# Altium integrated library Analog Devices Switches and Multiplexers Analog Switches.IntLib: 575 symbols (part 10 of 23)
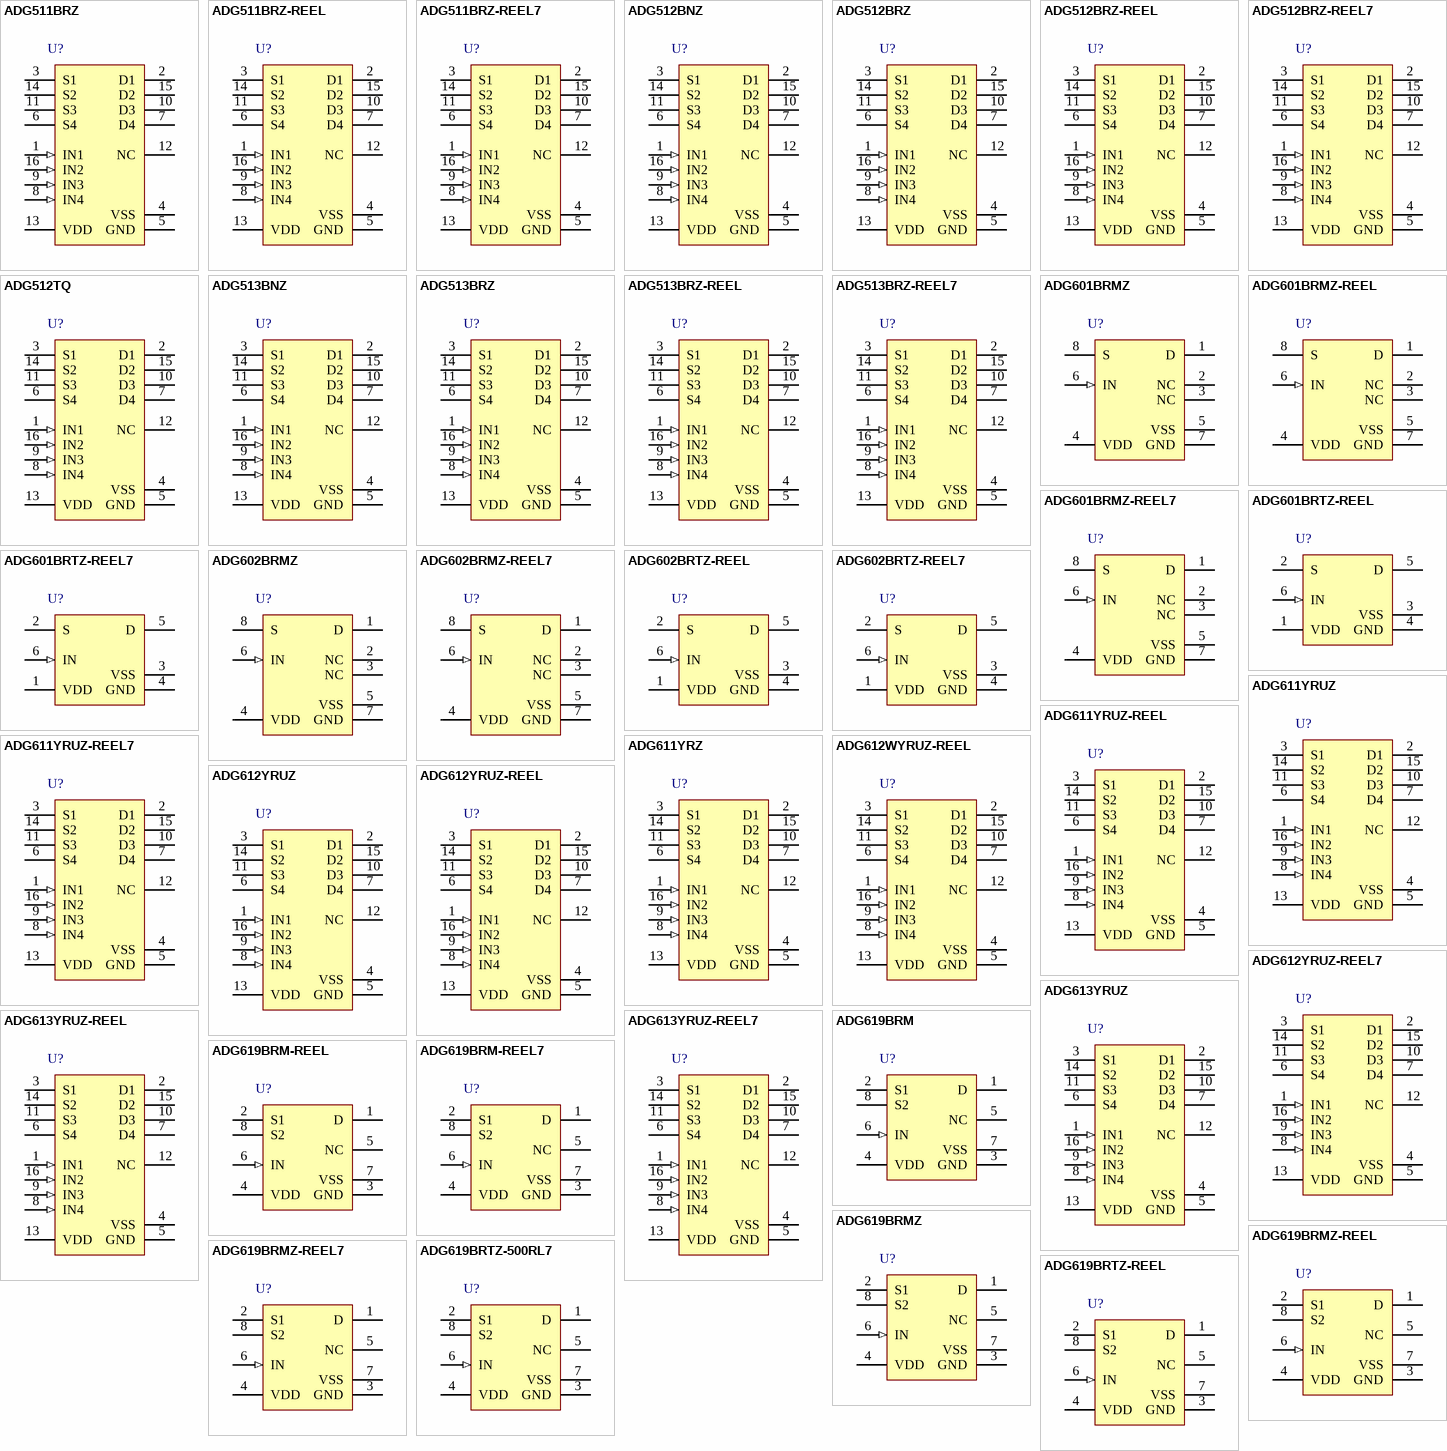
[diagram p24: symbols ADG511BRZ to ADG619BRTZ-REEL]

## ADG602BRTZ-REEL
designator U?
2 Ohm, CMOS, +/-5 V / +5 V, SPST Switch, -40 to 85 degC, 6-pin SOT23 (RJ-6), Reel; Manufacturer: Analog Devices; PartNumber: ADG602BRTZ-REEL; Id, Is (ON): 10pA, 10pA; Max Pos Supply: 5.5V; Min Pos Supply: 2.7V; Power Dissipation: 10uW; Ron (ohms): 2; DatasheetVersion: Rev. C; PackageVersion: 121608-A, 12/2008; PackageReference: RJ-6; PackageDescription: 6-Pin Small Outline Transistor Package, Body 2.9 x 1.6 mm, Pitch 0.95 mm; Supplier 1: Digi-Key; Supplier Part Number 1: ADG602BRTZ-REEL-ND; Supplier 2: Mouser; Supplier Part Number 2: 584-ADG602BRTZ-R; Configuration: SPST; Is OFF: 10pA, 10pA; Packing: Reel; Mounting Technology: Surface Mount; Code_JEDEC: MO-178-AB; ComponentLink1Description: Manufacturer URL; ComponentLink1URL: http://www.analog.com/en/index.html; ComponentLink2Description: Datasheet; ComponentLink2URL: http://www.analog.com/static/imported-files/data_sheets/ADG601_602.pdf; ComponentLink3Description: Package Specification; ComponentLink3URL: http://www.analog.com/static/imported-files/packages/PKG_PDF/SOT-23(RJ)/RJ_6.pdf
footprint ADI-RJ-6_N (SOT23, 6-Leads, Body 2.9x1.6mm, Pitch 0.95mm, IPC Medium Density)
footprint ADI-RJ-6_L (SOT23, 6-Leads, Body 2.9x1.6mm, Pitch 0.95mm, IPC High Density)
footprint ADI-RJ-6_M (SOT23, 6-Leads, Body 2.9x1.6mm, Pitch 0.95mm, IPC Low Density)
pins: 1 VDD (power) "Most Positive Power Supply Potential.", 2 S "Source Terminal. Can be an input or output.", 3 VSS (power) "Most Negative Power Supply Potential.", 4 GND (power) "Ground (0 V) Reference.", 5 D "Drain Terminal. Can be an input or output.", 6 IN (in) "Logic Control Input."

## ADG602BRTZ-REEL7
designator U?
2 Ohm, CMOS, +/-5 V / +5 V, SPST Switch, -40 to 85 degC, 6-pin SOT23 (RJ-6), Reel; Manufacturer: Analog Devices; PartNumber: ADG602BRTZ-REEL7; Id, Is (ON): 10pA, 10pA; Max Pos Supply: 5.5V; Min Pos Supply: 2.7V; Power Dissipation: 10uW; Ron (ohms): 2; DatasheetVersion: Rev. C; PackageVersion: 121608-A, 12/2008; PackageReference: RJ-6; PackageDescription: 6-Pin Small Outline Transistor Package, Body 2.9 x 1.6 mm, Pitch 0.95 mm; Supplier 1: Digi-Key; Supplier Part Number 1: ADG602BRTZ-REEL7TR-ND; Supplier 2: Digi-Key; Supplier Part Number 2: ADG602BRTZ-REEL7CT-ND; Supplier 3: Digi-Key; Supplier Part Number 3: ADG602BRTZ-REEL7DKR-ND; Supplier 4: Farnell; Supplier Part Number 4: 2312945; Supplier 5: Newark; Supplier Part Number 5: 67W3126; Supplier 6: Newark; Supplier Part Number 6: 59K1412; Supplier 7: Mouser; Supplier Part Number 7: 584-ADG602BRTZ-R7; Configuration: SPST; Is OFF: 10pA, 10pA; Packing: Reel; Mounting Technology: Surface Mount; Code_JEDEC: MO-178-AB; ComponentLink1Description: Manufacturer URL; ComponentLink1URL: http://www.analog.com/en/index.html; ComponentLink2Description: Datasheet; ComponentLink2URL: http://www.analog.com/static/imported-files/data_sheets/ADG601_602.pdf; ComponentLink3Description: Package Specification; ComponentLink3URL: http://www.analog.com/static/imported-files/packages/PKG_PDF/SOT-23(RJ)/RJ_6.pdf
footprint ADI-RJ-6_N (SOT23, 6-Leads, Body 2.9x1.6mm, Pitch 0.95mm, IPC Medium Density)
footprint ADI-RJ-6_L (SOT23, 6-Leads, Body 2.9x1.6mm, Pitch 0.95mm, IPC High Density)
footprint ADI-RJ-6_M (SOT23, 6-Leads, Body 2.9x1.6mm, Pitch 0.95mm, IPC Low Density)
pins: 1 VDD (power) "Most Positive Power Supply Potential.", 2 S "Source Terminal. Can be an input or output.", 3 VSS (power) "Most Negative Power Supply Potential.", 4 GND (power) "Ground (0 V) Reference.", 5 D "Drain Terminal. Can be an input or output.", 6 IN (in) "Logic Control Input."

## ADG611YRUZ
designator U?
1 pC Charge Injection, 100 pA Leakage, CMOS, +/-5 V / 5 V / 3 V, Quad SPST Switches, 85 Ohm Ron, 16-pin SOP (RU-16), Tube; Manufacturer: Analog Devices; PartNumber: ADG611YRUZ; # Sw Functions: 4; Max Neg Supply: -5.5V; Max Pos Supply: +5.5V; Ron (ohms): 85, 210; t ON: 45ns, 70ns; DatasheetVersion: Rev. A; PackageVersion: Nov-02; PackageReference: RU-16; PackageDescription: 16-Pin Thin Shrink Small Outline Package, Body 5 x 4.4 mm, Pitch 0.65 mm; Supplier 1: Digi-Key; Supplier Part Number 1: ADG611YRUZ-ND; Supplier 2: Farnell; Supplier Part Number 2: 1438884; Supplier 3: Newark; Supplier Part Number 3: 59K1428; Supplier 4: Mouser; Supplier Part Number 4: 584-ADG611YRUZ; Configuration: SPST; Packing: Tube; Mounting Technology: Surface Mount; Code_JEDEC: MO-153AB; ComponentLink1Description: Manufacturer URL; ComponentLink1URL: http://www.analog.com/en/index.html; ComponentLink2Description: Datasheet; ComponentLink2URL: http://www.analog.com/static/imported-files/data_sheets/ADG611_612_613.pdf; ComponentLink3Description: Package Specification; ComponentLink3URL: http:/www.analog.com/static/imported-files/packages/36244347913743854010197452789RU16.pdf
footprint ADI-RU-16_N (SOP, 16-Leads, Body 5x4.4mm, Pitch 0.65mm, IPC Medium Density)
footprint ADI-RU-16_L (SOP, 16-Leads, Body 5x4.4mm, Pitch 0.65mm, IPC High Density)
footprint ADI-RU-16_M (SOP, 16-Leads, Body 5x4.4mm, Pitch 0.65mm, IPC Low Density)
pins: 1 IN1 (in) "Switch 1 Digital Control Input.", 2 D1 "Drain Terminal of Switch 1. Can be an input or output.", 3 S1 "Source Terminal of Switch 1. Can be an input or output.", 4 VSS (power) "Most Negative Power Supply Terminal. Tie this pin to GND when using the device with single-supply voltages.", 5 GND (power) "Ground (0 V) Reference.", 6 S4 "Source Terminal of Switch 4. Can be an input or output.", 7 D4 "Drain Terminal of Switch 4. Can be an input or output.", 8 IN4 (in) "Switch 4 Digital Control Input.", 9 IN3 (in) "Switch 3 Digital Control Input.", 10 D3 "Drain Terminal of Switch 3. Can be an input or output.", 11 S3 "Source Terminal of Switch 3. Can be an input or output.", 12 NC "Not Internally Connected.", 13 VDD (power) "Most Positive Power Supply Terminal.", 14 S2 "Source Terminal of Switch 2. Can be an input or output.", 15 D2 "Drain Terminal of Switch 2. Can be an input or output.", 16 IN2 (in) "Switch 2 Digital Control Input."

## ADG611YRUZ-REEL
designator U?
1 pC Charge Injection, 100 pA Leakage, CMOS, +/-5 V / 5 V / 3 V, Quad SPST Switches, 85 Ohm Ron, 16-pin SOP (RU-16), Reel; Manufacturer: Analog Devices; PartNumber: ADG611YRUZ-REEL; # Sw Functions: 4; Max Neg Supply: -5.5V; Max Pos Supply: +5.5V; Ron (ohms): 85, 210; t ON: 45ns, 70ns; DatasheetVersion: Rev. A; PackageVersion: Nov-02; PackageReference: RU-16; PackageDescription: 16-Pin Thin Shrink Small Outline Package, Body 5 x 4.4 mm, Pitch 0.65 mm; Supplier 1: Digi-Key; Supplier Part Number 1: ADG611YRUZ-REEL-ND; Configuration: SPST; Packing: Reel; Mounting Technology: Surface Mount; Code_JEDEC: MO-153AB; ComponentLink1Description: Manufacturer URL; ComponentLink1URL: http://www.analog.com/en/index.html; ComponentLink2Description: Datasheet; ComponentLink2URL: http://www.analog.com/static/imported-files/data_sheets/ADG611_612_613.pdf; ComponentLink3Description: Package Specification; ComponentLink3URL: http:/www.analog.com/static/imported-files/packages/36244347913743854010197452789RU16.pdf
footprint ADI-RU-16_N (SOP, 16-Leads, Body 5x4.4mm, Pitch 0.65mm, IPC Medium Density)
footprint ADI-RU-16_L (SOP, 16-Leads, Body 5x4.4mm, Pitch 0.65mm, IPC High Density)
footprint ADI-RU-16_M (SOP, 16-Leads, Body 5x4.4mm, Pitch 0.65mm, IPC Low Density)
pins: 1 IN1 (in) "Switch 1 Digital Control Input.", 2 D1 "Drain Terminal of Switch 1. Can be an input or output.", 3 S1 "Source Terminal of Switch 1. Can be an input or output.", 4 VSS (power) "Most Negative Power Supply Terminal. Tie this pin to GND when using the device with single-supply voltages.", 5 GND (power) "Ground (0 V) Reference.", 6 S4 "Source Terminal of Switch 4. Can be an input or output.", 7 D4 "Drain Terminal of Switch 4. Can be an input or output.", 8 IN4 (in) "Switch 4 Digital Control Input.", 9 IN3 (in) "Switch 3 Digital Control Input.", 10 D3 "Drain Terminal of Switch 3. Can be an input or output.", 11 S3 "Source Terminal of Switch 3. Can be an input or output.", 12 NC "Not Internally Connected.", 13 VDD (power) "Most Positive Power Supply Terminal.", 14 S2 "Source Terminal of Switch 2. Can be an input or output.", 15 D2 "Drain Terminal of Switch 2. Can be an input or output.", 16 IN2 (in) "Switch 2 Digital Control Input."

## ADG611YRUZ-REEL7
designator U?
1 pC Charge Injection, 100 pA Leakage, CMOS, +/-5 V / 5 V / 3 V, Quad SPST Switches, 85 Ohm Ron, 16-pin SOP (RU-16), Reel; Manufacturer: Analog Devices; PartNumber: ADG611YRUZ-REEL7; # Sw Functions: 4; Max Neg Supply: -5.5V; Max Pos Supply: +5.5V; Ron (ohms): 85, 210; t ON: 45ns, 70ns; DatasheetVersion: Rev. A; PackageVersion: Nov-02; PackageReference: RU-16; PackageDescription: 16-Pin Thin Shrink Small Outline Package, Body 5 x 4.4 mm, Pitch 0.65 mm; Supplier 1: Digi-Key; Supplier Part Number 1: ADG611YRUZ-REEL7TR-ND; Supplier 2: Digi-Key; Supplier Part Number 2: ADG611YRUZ-REEL7CT-ND; Supplier 3: Digi-Key; Supplier Part Number 3: ADG611YRUZ-REEL7DKR-ND; Supplier 4: Newark; Supplier Part Number 4: 59K1430; Supplier 5: Mouser; Supplier Part Number 5: 584-ADG611YRUZ-R7; Configuration: SPST; Packing: Reel; Mounting Technology: Surface Mount; Code_JEDEC: MO-153AB; ComponentLink1Description: Manufacturer URL; ComponentLink1URL: http://www.analog.com/en/index.html; ComponentLink2Description: Datasheet; ComponentLink2URL: http://www.analog.com/static/imported-files/data_sheets/ADG611_612_613.pdf; ComponentLink3Description: Package Specification; ComponentLink3URL: http:/www.analog.com/static/imported-files/packages/36244347913743854010197452789RU16.pdf
footprint ADI-RU-16_N (SOP, 16-Leads, Body 5x4.4mm, Pitch 0.65mm, IPC Medium Density)
footprint ADI-RU-16_L (SOP, 16-Leads, Body 5x4.4mm, Pitch 0.65mm, IPC High Density)
footprint ADI-RU-16_M (SOP, 16-Leads, Body 5x4.4mm, Pitch 0.65mm, IPC Low Density)
pins: 1 IN1 (in) "Switch 1 Digital Control Input.", 2 D1 "Drain Terminal of Switch 1. Can be an input or output.", 3 S1 "Source Terminal of Switch 1. Can be an input or output.", 4 VSS (power) "Most Negative Power Supply Terminal. Tie this pin to GND when using the device with single-supply voltages.", 5 GND (power) "Ground (0 V) Reference.", 6 S4 "Source Terminal of Switch 4. Can be an input or output.", 7 D4 "Drain Terminal of Switch 4. Can be an input or output.", 8 IN4 (in) "Switch 4 Digital Control Input.", 9 IN3 (in) "Switch 3 Digital Control Input.", 10 D3 "Drain Terminal of Switch 3. Can be an input or output.", 11 S3 "Source Terminal of Switch 3. Can be an input or output.", 12 NC "Not Internally Connected.", 13 VDD (power) "Most Positive Power Supply Terminal.", 14 S2 "Source Terminal of Switch 2. Can be an input or output.", 15 D2 "Drain Terminal of Switch 2. Can be an input or output.", 16 IN2 (in) "Switch 2 Digital Control Input."

## ADG611YRZ
designator U?
1 pC Charge Injection, 100 pA Leakage, CMOS, +/-5 V / 5 V / 3 V, Quad SPST Switches, 85 Ohm Ron, 16-pin SOIC (R-16), Tube; Manufacturer: Analog Devices; PartNumber: ADG611YRZ; # Sw Functions: 4; Max Neg Supply: -5.5V; Max Pos Supply: +5.5V; Ron (ohms): 85, 210; t ON: 45ns, 70ns; DatasheetVersion: Rev. A; PackageVersion: 060606-A, 06/2006; PackageReference: R-16; PackageDescription: 16-Pin Standard Small Outline Package, Body 9.9 x 3.9 mm, Pitch 1.27 mm; Supplier 1: Mouser; Supplier Part Number 1: N/A; Configuration: SPST; Packing: Tube; Mounting Technology: Surface Mount; Code_JEDEC: MS-012-AC; ComponentLink1Description: Manufacturer URL; ComponentLink1URL: http://www.analog.com/en/index.html; ComponentLink2Description: Datasheet; ComponentLink2URL: http://www.analog.com/static/imported-files/data_sheets/ADG611_612_613.pdf; ComponentLink3Description: Package Specification; ComponentLink3URL: http://www.analog.com/static/imported-files/packages/PKG_PDF/SOIC_Narrow%20(R)/R_16.pdf
footprint ADI-R-16_N (SOIC, 16-Leads, Body 9.9x3.9mm, Pitch 1.27mm, IPC Medium Density)
footprint ADI-R-16_L (SOIC, 16-Leads, Body 9.9x3.9mm, Pitch 1.27mm, IPC High Density)
footprint ADI-R-16_M (SOIC, 16-Leads, Body 9.9x3.9mm, Pitch 1.27mm, IPC Low Density)
pins: 1 IN1 (in) "Switch 1 Digital Control Input.", 2 D1 "Drain Terminal of Switch 1. Can be an input or output.", 3 S1 "Source Terminal of Switch 1. Can be an input or output.", 4 VSS (power) "Most Negative Power Supply Terminal. Tie this pin to GND when using the device with single-supply voltages.", 5 GND (power) "Ground (0 V) Reference.", 6 S4 "Source Terminal of Switch 4. Can be an input or output.", 7 D4 "Drain Terminal of Switch 4. Can be an input or output.", 8 IN4 (in) "Switch 4 Digital Control Input.", 9 IN3 (in) "Switch 3 Digital Control Input.", 10 D3 "Drain Terminal of Switch 3. Can be an input or output.", 11 S3 "Source Terminal of Switch 3. Can be an input or output.", 12 NC "Not Internally Connected.", 13 VDD (power) "Most Positive Power Supply Terminal.", 14 S2 "Source Terminal of Switch 2. Can be an input or output.", 15 D2 "Drain Terminal of Switch 2. Can be an input or output.", 16 IN2 (in) "Switch 2 Digital Control Input."

## ADG612WYRUZ-REEL
designator U?
1 pC Charge Injection, 100 pA Leakage, CMOS, +/-5 V / 5 V / 3 V, Quad SPST Switches, 85 Ohm Ron, 16-pin SOP (RU-16), Reel; Manufacturer: Analog Devices; PartNumber: ADG612WYRUZ-REEL; # Sw Functions: 4; Max Neg Supply: -5.5V; Max Pos Supply: +5.5V; Ron (ohms): 85, 210; t ON: 45ns, 70ns; DatasheetVersion: Rev. A; PackageVersion: Nov-02; PackageReference: RU-16; PackageDescription: 16-Pin Thin Shrink Small Outline Package, Body 5 x 4.4 mm, Pitch 0.65 mm; Supplier 1: Digi-Key; Supplier Part Number 1: ADG612WYRUZ-REELTR-ND; Supplier 2: Digi-Key; Supplier Part Number 2: ADG612WYRUZ-REELCT-ND; Supplier 3: Digi-Key; Supplier Part Number 3: ADG612WYRUZ-REELDKR-ND; Supplier 4: Mouser; Supplier Part Number 4: 584-ADG612WYRUZ-R; Configuration: SPST; Packing: Reel; Mounting Technology: Surface Mount; Code_JEDEC: MO-153AB; ComponentLink1Description: Manufacturer URL; ComponentLink1URL: http://www.analog.com/en/index.html; ComponentLink2Description: Datasheet; ComponentLink2URL: http://www.analog.com/static/imported-files/data_sheets/ADG611_612_613.pdf; ComponentLink3Description: Package Specification; ComponentLink3URL: http:/www.analog.com/static/imported-files/packages/36244347913743854010197452789RU16.pdf
footprint ADI-RU-16_N (SOP, 16-Leads, Body 5x4.4mm, Pitch 0.65mm, IPC Medium Density)
footprint ADI-RU-16_L (SOP, 16-Leads, Body 5x4.4mm, Pitch 0.65mm, IPC High Density)
footprint ADI-RU-16_M (SOP, 16-Leads, Body 5x4.4mm, Pitch 0.65mm, IPC Low Density)
pins: 1 IN1 (in) "Switch 1 Digital Control Input.", 2 D1 "Drain Terminal of Switch 1. Can be an input or output.", 3 S1 "Source Terminal of Switch 1. Can be an input or output.", 4 VSS (power) "Most Negative Power Supply Terminal. Tie this pin to GND when using the device with single-supply voltages.", 5 GND (power) "Ground (0 V) Reference.", 6 S4 "Source Terminal of Switch 4. Can be an input or output.", 7 D4 "Drain Terminal of Switch 4. Can be an input or output.", 8 IN4 (in) "Switch 4 Digital Control Input.", 9 IN3 (in) "Switch 3 Digital Control Input.", 10 D3 "Drain Terminal of Switch 3. Can be an input or output.", 11 S3 "Source Terminal of Switch 3. Can be an input or output.", 12 NC "Not Internally Connected.", 13 VDD (power) "Most Positive Power Supply Terminal.", 14 S2 "Source Terminal of Switch 2. Can be an input or output.", 15 D2 "Drain Terminal of Switch 2. Can be an input or output.", 16 IN2 (in) "Switch 2 Digital Control Input."

## ADG612YRUZ
designator U?
1 pC Charge Injection, 100 pA Leakage, CMOS, +/-5 V / 5 V / 3 V, Quad SPST Switches, 85 Ohm Ron, 16-pin SOP (RU-16), Tube; Manufacturer: Analog Devices; PartNumber: ADG612YRUZ; # Sw Functions: 4; Max Neg Supply: -5.5V; Max Pos Supply: +5.5V; Ron (ohms): 85, 210; t ON: 45ns, 70ns; DatasheetVersion: Rev. A; PackageVersion: Nov-02; PackageReference: RU-16; PackageDescription: 16-Pin Thin Shrink Small Outline Package, Body 5 x 4.4 mm, Pitch 0.65 mm; Supplier 1: Digi-Key; Supplier Part Number 1: ADG612YRUZ-ND; Supplier 2: Farnell; Supplier Part Number 2: 1438885; Supplier 3: Newark; Supplier Part Number 3: 59K1431; Supplier 4: Mouser; Supplier Part Number 4: 584-ADG612YRUZ; Configuration: SPST; Packing: Tube; Mounting Technology: Surface Mount; Code_JEDEC: MO-153AB; ComponentLink1Description: Manufacturer URL; ComponentLink1URL: http://www.analog.com/en/index.html; ComponentLink2Description: Datasheet; ComponentLink2URL: http://www.analog.com/static/imported-files/data_sheets/ADG611_612_613.pdf; ComponentLink3Description: Package Specification; ComponentLink3URL: http:/www.analog.com/static/imported-files/packages/36244347913743854010197452789RU16.pdf
footprint ADI-RU-16_N (SOP, 16-Leads, Body 5x4.4mm, Pitch 0.65mm, IPC Medium Density)
footprint ADI-RU-16_L (SOP, 16-Leads, Body 5x4.4mm, Pitch 0.65mm, IPC High Density)
footprint ADI-RU-16_M (SOP, 16-Leads, Body 5x4.4mm, Pitch 0.65mm, IPC Low Density)
pins: 1 IN1 (in) "Switch 1 Digital Control Input.", 2 D1 "Drain Terminal of Switch 1. Can be an input or output.", 3 S1 "Source Terminal of Switch 1. Can be an input or output.", 4 VSS (power) "Most Negative Power Supply Terminal. Tie this pin to GND when using the device with single-supply voltages.", 5 GND (power) "Ground (0 V) Reference.", 6 S4 "Source Terminal of Switch 4. Can be an input or output.", 7 D4 "Drain Terminal of Switch 4. Can be an input or output.", 8 IN4 (in) "Switch 4 Digital Control Input.", 9 IN3 (in) "Switch 3 Digital Control Input.", 10 D3 "Drain Terminal of Switch 3. Can be an input or output.", 11 S3 "Source Terminal of Switch 3. Can be an input or output.", 12 NC "Not Internally Connected.", 13 VDD (power) "Most Positive Power Supply Terminal.", 14 S2 "Source Terminal of Switch 2. Can be an input or output.", 15 D2 "Drain Terminal of Switch 2. Can be an input or output.", 16 IN2 (in) "Switch 2 Digital Control Input."

## ADG612YRUZ-REEL
designator U?
1 pC Charge Injection, 100 pA Leakage, CMOS, +/-5 V / 5 V / 3 V, Quad SPST Switches, 85 Ohm Ron, 16-pin SOP (RU-16), Reel; Manufacturer: Analog Devices; PartNumber: ADG612YRUZ-REEL; # Sw Functions: 4; Max Neg Supply: -5.5V; Max Pos Supply: +5.5V; Ron (ohms): 85, 210; t ON: 45ns, 70ns; DatasheetVersion: Rev. A; PackageVersion: Nov-02; PackageReference: RU-16; PackageDescription: 16-Pin Thin Shrink Small Outline Package, Body 5 x 4.4 mm, Pitch 0.65 mm; Supplier 1: Digi-Key; Supplier Part Number 1: ADG612YRUZ-REEL-ND; Supplier 2: Newark; Supplier Part Number 2: 59K1432; Supplier 3: Mouser; Supplier Part Number 3: 584-ADG612YRUZ-R; Configuration: SPST; Packing: Reel; Mounting Technology: Surface Mount; Code_JEDEC: MO-153AB; ComponentLink1Description: Manufacturer URL; ComponentLink1URL: http://www.analog.com/en/index.html; ComponentLink2Description: Datasheet; ComponentLink2URL: http://www.analog.com/static/imported-files/data_sheets/ADG611_612_613.pdf; ComponentLink3Description: Package Specification; ComponentLink3URL: http:/www.analog.com/static/imported-files/packages/36244347913743854010197452789RU16.pdf
footprint ADI-RU-16_N (SOP, 16-Leads, Body 5x4.4mm, Pitch 0.65mm, IPC Medium Density)
footprint ADI-RU-16_L (SOP, 16-Leads, Body 5x4.4mm, Pitch 0.65mm, IPC High Density)
footprint ADI-RU-16_M (SOP, 16-Leads, Body 5x4.4mm, Pitch 0.65mm, IPC Low Density)
pins: 1 IN1 (in) "Switch 1 Digital Control Input.", 2 D1 "Drain Terminal of Switch 1. Can be an input or output.", 3 S1 "Source Terminal of Switch 1. Can be an input or output.", 4 VSS (power) "Most Negative Power Supply Terminal. Tie this pin to GND when using the device with single-supply voltages.", 5 GND (power) "Ground (0 V) Reference.", 6 S4 "Source Terminal of Switch 4. Can be an input or output.", 7 D4 "Drain Terminal of Switch 4. Can be an input or output.", 8 IN4 (in) "Switch 4 Digital Control Input.", 9 IN3 (in) "Switch 3 Digital Control Input.", 10 D3 "Drain Terminal of Switch 3. Can be an input or output.", 11 S3 "Source Terminal of Switch 3. Can be an input or output.", 12 NC "Not Internally Connected.", 13 VDD (power) "Most Positive Power Supply Terminal.", 14 S2 "Source Terminal of Switch 2. Can be an input or output.", 15 D2 "Drain Terminal of Switch 2. Can be an input or output.", 16 IN2 (in) "Switch 2 Digital Control Input."

## ADG612YRUZ-REEL7
designator U?
1 pC Charge Injection, 100 pA Leakage, CMOS, +/-5 V / 5 V / 3 V, Quad SPST Switches, 85 Ohm Ron, 16-pin SOP (RU-16), Reel; Manufacturer: Analog Devices; PartNumber: ADG612YRUZ-REEL7; # Sw Functions: 4; Max Neg Supply: -5.5V; Max Pos Supply: +5.5V; Ron (ohms): 85, 210; t ON: 45ns, 70ns; DatasheetVersion: Rev. A; PackageVersion: Nov-02; PackageReference: RU-16; PackageDescription: 16-Pin Thin Shrink Small Outline Package, Body 5 x 4.4 mm, Pitch 0.65 mm; Supplier 1: Digi-Key; Supplier Part Number 1: ADG612YRUZ-REEL7-ND; Supplier 2: Mouser; Supplier Part Number 2: 584-ADG612YRUZ-R7; Configuration: SPST; Packing: Reel; Mounting Technology: Surface Mount; Code_JEDEC: MO-153AB; ComponentLink1Description: Manufacturer URL; ComponentLink1URL: http://www.analog.com/en/index.html; ComponentLink2Description: Datasheet; ComponentLink2URL: http://www.analog.com/static/imported-files/data_sheets/ADG611_612_613.pdf; ComponentLink3Description: Package Specification; ComponentLink3URL: http:/www.analog.com/static/imported-files/packages/36244347913743854010197452789RU16.pdf
footprint ADI-RU-16_N (SOP, 16-Leads, Body 5x4.4mm, Pitch 0.65mm, IPC Medium Density)
footprint ADI-RU-16_L (SOP, 16-Leads, Body 5x4.4mm, Pitch 0.65mm, IPC High Density)
footprint ADI-RU-16_M (SOP, 16-Leads, Body 5x4.4mm, Pitch 0.65mm, IPC Low Density)
pins: 1 IN1 (in) "Switch 1 Digital Control Input.", 2 D1 "Drain Terminal of Switch 1. Can be an input or output.", 3 S1 "Source Terminal of Switch 1. Can be an input or output.", 4 VSS (power) "Most Negative Power Supply Terminal. Tie this pin to GND when using the device with single-supply voltages.", 5 GND (power) "Ground (0 V) Reference.", 6 S4 "Source Terminal of Switch 4. Can be an input or output.", 7 D4 "Drain Terminal of Switch 4. Can be an input or output.", 8 IN4 (in) "Switch 4 Digital Control Input.", 9 IN3 (in) "Switch 3 Digital Control Input.", 10 D3 "Drain Terminal of Switch 3. Can be an input or output.", 11 S3 "Source Terminal of Switch 3. Can be an input or output.", 12 NC "Not Internally Connected.", 13 VDD (power) "Most Positive Power Supply Terminal.", 14 S2 "Source Terminal of Switch 2. Can be an input or output.", 15 D2 "Drain Terminal of Switch 2. Can be an input or output.", 16 IN2 (in) "Switch 2 Digital Control Input."

## ADG613YRUZ
designator U?
1 pC Charge Injection, 100 pA Leakage, CMOS, +/-5 V / 5 V / 3 V, Quad SPST Switches, 85 Ohm Ron, 16-pin SOP (RU-16), Tube; Manufacturer: Analog Devices; PartNumber: ADG613YRUZ; # Sw Functions: 4; Max Neg Supply: -5.5V; Max Pos Supply: +5.5V; Ron (ohms): 85, 210; t ON: 45ns, 70ns; DatasheetVersion: Rev. A; PackageVersion: Nov-02; PackageReference: RU-16; PackageDescription: 16-Pin Thin Shrink Small Outline Package, Body 5 x 4.4 mm, Pitch 0.65 mm; Supplier 1: Digi-Key; Supplier Part Number 1: ADG613YRUZ-ND; Supplier 2: Farnell; Supplier Part Number 2: 1438886; Supplier 3: Newark; Supplier Part Number 3: 59K1434; Supplier 4: Mouser; Supplier Part Number 4: 584-ADG613YRUZ; Configuration: SPST; Packing: Tube; Mounting Technology: Surface Mount; Code_JEDEC: MO-153AB; ComponentLink1Description: Manufacturer URL; ComponentLink1URL: http://www.analog.com/en/index.html; ComponentLink2Description: Datasheet; ComponentLink2URL: http://www.analog.com/static/imported-files/data_sheets/ADG611_612_613.pdf; ComponentLink3Description: Package Specification; ComponentLink3URL: http:/www.analog.com/static/imported-files/packages/36244347913743854010197452789RU16.pdf
footprint ADI-RU-16_N (SOP, 16-Leads, Body 5x4.4mm, Pitch 0.65mm, IPC Medium Density)
footprint ADI-RU-16_L (SOP, 16-Leads, Body 5x4.4mm, Pitch 0.65mm, IPC High Density)
footprint ADI-RU-16_M (SOP, 16-Leads, Body 5x4.4mm, Pitch 0.65mm, IPC Low Density)
pins: 1 IN1 (in) "Switch 1 Digital Control Input.", 2 D1 "Drain Terminal of Switch 1. Can be an input or output.", 3 S1 "Source Terminal of Switch 1. Can be an input or output.", 4 VSS (power) "Most Negative Power Supply Terminal. Tie this pin to GND when using the device with single-supply voltages.", 5 GND (power) "Ground (0 V) Reference.", 6 S4 "Source Terminal of Switch 4. Can be an input or output.", 7 D4 "Drain Terminal of Switch 4. Can be an input or output.", 8 IN4 (in) "Switch 4 Digital Control Input.", 9 IN3 (in) "Switch 3 Digital Control Input.", 10 D3 "Drain Terminal of Switch 3. Can be an input or output.", 11 S3 "Source Terminal of Switch 3. Can be an input or output.", 12 NC "Not Internally Connected.", 13 VDD (power) "Most Positive Power Supply Terminal.", 14 S2 "Source Terminal of Switch 2. Can be an input or output.", 15 D2 "Drain Terminal of Switch 2. Can be an input or output.", 16 IN2 (in) "Switch 2 Digital Control Input."

## ADG613YRUZ-REEL
designator U?
1 pC Charge Injection, 100 pA Leakage, CMOS, +/-5 V / 5 V / 3 V, Quad SPST Switches, 85 Ohm Ron, 16-pin SOP (RU-16), Reel; Manufacturer: Analog Devices; PartNumber: ADG613YRUZ-REEL; # Sw Functions: 4; Max Neg Supply: -5.5V; Max Pos Supply: +5.5V; Ron (ohms): 85, 210; t ON: 45ns, 70ns; DatasheetVersion: Rev. A; PackageVersion: Nov-02; PackageReference: RU-16; PackageDescription: 16-Pin Thin Shrink Small Outline Package, Body 5 x 4.4 mm, Pitch 0.65 mm; Supplier 1: Digi-Key; Supplier Part Number 1: ADG613YRUZ-REEL-ND; Supplier 2: Mouser; Supplier Part Number 2: 584-ADG613YRUZ-R; Configuration: SPST; Packing: Reel; Mounting Technology: Surface Mount; Code_JEDEC: MO-153AB; ComponentLink1Description: Manufacturer URL; ComponentLink1URL: http://www.analog.com/en/index.html; ComponentLink2Description: Datasheet; ComponentLink2URL: http://www.analog.com/static/imported-files/data_sheets/ADG611_612_613.pdf; ComponentLink3Description: Package Specification; ComponentLink3URL: http:/www.analog.com/static/imported-files/packages/36244347913743854010197452789RU16.pdf
footprint ADI-RU-16_N (SOP, 16-Leads, Body 5x4.4mm, Pitch 0.65mm, IPC Medium Density)
footprint ADI-RU-16_L (SOP, 16-Leads, Body 5x4.4mm, Pitch 0.65mm, IPC High Density)
footprint ADI-RU-16_M (SOP, 16-Leads, Body 5x4.4mm, Pitch 0.65mm, IPC Low Density)
pins: 1 IN1 (in) "Switch 1 Digital Control Input.", 2 D1 "Drain Terminal of Switch 1. Can be an input or output.", 3 S1 "Source Terminal of Switch 1. Can be an input or output.", 4 VSS (power) "Most Negative Power Supply Terminal. Tie this pin to GND when using the device with single-supply voltages.", 5 GND (power) "Ground (0 V) Reference.", 6 S4 "Source Terminal of Switch 4. Can be an input or output.", 7 D4 "Drain Terminal of Switch 4. Can be an input or output.", 8 IN4 (in) "Switch 4 Digital Control Input.", 9 IN3 (in) "Switch 3 Digital Control Input.", 10 D3 "Drain Terminal of Switch 3. Can be an input or output.", 11 S3 "Source Terminal of Switch 3. Can be an input or output.", 12 NC "Not Internally Connected.", 13 VDD (power) "Most Positive Power Supply Terminal.", 14 S2 "Source Terminal of Switch 2. Can be an input or output.", 15 D2 "Drain Terminal of Switch 2. Can be an input or output.", 16 IN2 (in) "Switch 2 Digital Control Input."

## ADG613YRUZ-REEL7
designator U?
1 pC Charge Injection, 100 pA Leakage, CMOS, +/-5 V / 5 V / 3 V, Quad SPST Switches, 85 Ohm Ron, 16-pin SOP (RU-16), Reel; Manufacturer: Analog Devices; PartNumber: ADG613YRUZ-REEL7; # Sw Functions: 4; Max Neg Supply: -5.5V; Max Pos Supply: +5.5V; Ron (ohms): 85, 210; t ON: 45ns, 70ns; DatasheetVersion: Rev. A; PackageVersion: Nov-02; PackageReference: RU-16; PackageDescription: 16-Pin Thin Shrink Small Outline Package, Body 5 x 4.4 mm, Pitch 0.65 mm; Supplier 1: Digi-Key; Supplier Part Number 1: ADG613YRUZ-REEL7-ND; Supplier 2: Mouser; Supplier Part Number 2: 584-ADG613YRUZ-R7; Configuration: SPST; Packing: Reel; Mounting Technology: Surface Mount; Code_JEDEC: MO-153AB; ComponentLink1Description: Manufacturer URL; ComponentLink1URL: http://www.analog.com/en/index.html; ComponentLink2Description: Datasheet; ComponentLink2URL: http://www.analog.com/static/imported-files/data_sheets/ADG611_612_613.pdf; ComponentLink3Description: Package Specification; ComponentLink3URL: http:/www.analog.com/static/imported-files/packages/36244347913743854010197452789RU16.pdf
footprint ADI-RU-16_N (SOP, 16-Leads, Body 5x4.4mm, Pitch 0.65mm, IPC Medium Density)
footprint ADI-RU-16_L (SOP, 16-Leads, Body 5x4.4mm, Pitch 0.65mm, IPC High Density)
footprint ADI-RU-16_M (SOP, 16-Leads, Body 5x4.4mm, Pitch 0.65mm, IPC Low Density)
pins: 1 IN1 (in) "Switch 1 Digital Control Input.", 2 D1 "Drain Terminal of Switch 1. Can be an input or output.", 3 S1 "Source Terminal of Switch 1. Can be an input or output.", 4 VSS (power) "Most Negative Power Supply Terminal. Tie this pin to GND when using the device with single-supply voltages.", 5 GND (power) "Ground (0 V) Reference.", 6 S4 "Source Terminal of Switch 4. Can be an input or output.", 7 D4 "Drain Terminal of Switch 4. Can be an input or output.", 8 IN4 (in) "Switch 4 Digital Control Input.", 9 IN3 (in) "Switch 3 Digital Control Input.", 10 D3 "Drain Terminal of Switch 3. Can be an input or output.", 11 S3 "Source Terminal of Switch 3. Can be an input or output.", 12 NC "Not Internally Connected.", 13 VDD (power) "Most Positive Power Supply Terminal.", 14 S2 "Source Terminal of Switch 2. Can be an input or output.", 15 D2 "Drain Terminal of Switch 2. Can be an input or output.", 16 IN2 (in) "Switch 2 Digital Control Input."

## ADG619BRM
designator U?
CMOS, +/-5 V / +5 V, 4 Ohm, Single SPDT Switch, -40 to 85 degC, 8-pin SOP (RM-8), Tube; Manufacturer: Analog Devices; PartNumber: ADG619BRM; Id, Is (ON): 10pA, 10pA; Max Pos Supply: 5.5V; Min Pos Supply: 2.7V; Power Dissipation: 10uW; Ron (ohms): 4; DatasheetVersion: Rev. C; PackageVersion: Aug-05; PackageReference: RM-8; PackageDescription: 8-Pin Mini Small Outline Package, Body 3 x 3 mm, Pitch 0.65 mm; Supplier 1: Digi-Key; Supplier Part Number 1: ADG619BRM-ND; Supplier 2: Mouser; Supplier Part Number 2: 584-ADG619BRM; Configuration: SPDT; Is OFF: 10pA, 10pA; Packing: Tube; Mounting Technology: Surface Mount; Code_JEDEC: MO-187-AA; ComponentLink1Description: Manufacturer URL; ComponentLink1URL: http://www.analog.com/en/index.html; ComponentLink2Description: Datasheet; ComponentLink2URL: http://www.analog.com/static/imported-files/data_sheets/ADG619_620.pdf; ComponentLink3Description: Package Specification; ComponentLink3URL: http://www.analog.com/static/imported-files/packages/PKG_PDF/MSOP%28RM%29/RM_8.pdf
footprint ADI-RM-8_N (SOP, 8-Leads, Body 3x3mm, Pitch 0.65mm, IPC Medium Density)
footprint ADI-RM-8_L (SOP, 8-Leads, Body 3x3mm, Pitch 0.65mm, IPC High Density)
footprint ADI-RM-8_M (SOP, 8-Leads, Body 3x3mm, Pitch 0.65mm, IPC Low Density)
pins: 1 D "Drain Terminal. Can be an input or output.", 2 S1 "Source Terminal. Can be an input or output.", 3 GND (power) "Ground (0 V) Reference.", 4 VDD (power) "Most Positive Power Supply.", 5 NC "No Connect. Not internally connected.", 6 IN (in) "Logic Control Input.", 7 VSS (power) "Most Negative Power Supply. This pin is only used in dual-supply applications and should be tied to ground in single-supply applications.", 8 S2 "Source Terminal. Can be an input or output."

## ADG619BRM-REEL
designator U?
CMOS, +/-5 V / +5 V, 4 Ohm, Single SPDT Switch, -40 to 85 degC, 8-pin SOP (RM-8), Reel; Manufacturer: Analog Devices; PartNumber: ADG619BRM-REEL; Id, Is (ON): 10pA, 10pA; Max Pos Supply: 5.5V; Min Pos Supply: 2.7V; Power Dissipation: 10uW; Ron (ohms): 4; DatasheetVersion: Rev. C; PackageVersion: Aug-05; PackageReference: RM-8; PackageDescription: 8-Pin Mini Small Outline Package, Body 3 x 3 mm, Pitch 0.65 mm; Supplier 1: Digi-Key; Supplier Part Number 1: ADG619BRM-REEL-ND; Supplier 2: Newark; Supplier Part Number 2: 02H0851; Configuration: SPDT; Is OFF: 10pA, 10pA; Packing: Reel; Mounting Technology: Surface Mount; Code_JEDEC: MO-187-AA; ComponentLink1Description: Manufacturer URL; ComponentLink1URL: http://www.analog.com/en/index.html; ComponentLink2Description: Datasheet; ComponentLink2URL: http://www.analog.com/static/imported-files/data_sheets/ADG619_620.pdf; ComponentLink3Description: Package Specification; ComponentLink3URL: http://www.analog.com/static/imported-files/packages/PKG_PDF/MSOP%28RM%29/RM_8.pdf
footprint ADI-RM-8_N (SOP, 8-Leads, Body 3x3mm, Pitch 0.65mm, IPC Medium Density)
footprint ADI-RM-8_L (SOP, 8-Leads, Body 3x3mm, Pitch 0.65mm, IPC High Density)
footprint ADI-RM-8_M (SOP, 8-Leads, Body 3x3mm, Pitch 0.65mm, IPC Low Density)
pins: 1 D "Drain Terminal. Can be an input or output.", 2 S1 "Source Terminal. Can be an input or output.", 3 GND (power) "Ground (0 V) Reference.", 4 VDD (power) "Most Positive Power Supply.", 5 NC "No Connect. Not internally connected.", 6 IN (in) "Logic Control Input.", 7 VSS (power) "Most Negative Power Supply. This pin is only used in dual-supply applications and should be tied to ground in single-supply applications.", 8 S2 "Source Terminal. Can be an input or output."

## ADG619BRM-REEL7
designator U?
CMOS, +/-5 V / +5 V, 4 Ohm, Single SPDT Switch, -40 to 85 degC, 8-pin SOP (RM-8), Reel; Manufacturer: Analog Devices; PartNumber: ADG619BRM-REEL7; Id, Is (ON): 10pA, 10pA; Max Pos Supply: 5.5V; Min Pos Supply: 2.7V; Power Dissipation: 10uW; Ron (ohms): 4; DatasheetVersion: Rev. C; PackageVersion: Aug-05; PackageReference: RM-8; PackageDescription: 8-Pin Mini Small Outline Package, Body 3 x 3 mm, Pitch 0.65 mm; Configuration: SPDT; Is OFF: 10pA, 10pA; Packing: Reel; Mounting Technology: Surface Mount; Code_JEDEC: MO-187-AA; ComponentLink1Description: Manufacturer URL; ComponentLink1URL: http://www.analog.com/en/index.html; ComponentLink2Description: Datasheet; ComponentLink2URL: http://www.analog.com/static/imported-files/data_sheets/ADG619_620.pdf; ComponentLink3Description: Package Specification; ComponentLink3URL: http://www.analog.com/static/imported-files/packages/PKG_PDF/MSOP%28RM%29/RM_8.pdf
footprint ADI-RM-8_N (SOP, 8-Leads, Body 3x3mm, Pitch 0.65mm, IPC Medium Density)
footprint ADI-RM-8_L (SOP, 8-Leads, Body 3x3mm, Pitch 0.65mm, IPC High Density)
footprint ADI-RM-8_M (SOP, 8-Leads, Body 3x3mm, Pitch 0.65mm, IPC Low Density)
pins: 1 D "Drain Terminal. Can be an input or output.", 2 S1 "Source Terminal. Can be an input or output.", 3 GND (power) "Ground (0 V) Reference.", 4 VDD (power) "Most Positive Power Supply.", 5 NC "No Connect. Not internally connected.", 6 IN (in) "Logic Control Input.", 7 VSS (power) "Most Negative Power Supply. This pin is only used in dual-supply applications and should be tied to ground in single-supply applications.", 8 S2 "Source Terminal. Can be an input or output."

## ADG619BRMZ
designator U?
CMOS, +/-5 V / +5 V, 4 Ohm, Single SPDT Switch, -40 to 85 degC, 8-pin SOP (RM-8), Tube; Manufacturer: Analog Devices; PartNumber: ADG619BRMZ; Id, Is (ON): 10pA, 10pA; Max Pos Supply: 5.5V; Min Pos Supply: 2.7V; Power Dissipation: 10uW; Ron (ohms): 4; DatasheetVersion: Rev. C; PackageVersion: Aug-05; PackageReference: RM-8; PackageDescription: 8-Pin Mini Small Outline Package, Body 3 x 3 mm, Pitch 0.65 mm; Supplier 1: Digi-Key; Supplier Part Number 1: ADG619BRMZ-ND; Supplier 2: Farnell; Supplier Part Number 2: 1438887; Supplier 3: Mouser; Supplier Part Number 3: 584-ADG619BRMZ; Configuration: SPDT; Is OFF: 10pA, 10pA; Packing: Tube; Mounting Technology: Surface Mount; Code_JEDEC: MO-187-AA; ComponentLink1Description: Manufacturer URL; ComponentLink1URL: http://www.analog.com/en/index.html; ComponentLink2Description: Datasheet; ComponentLink2URL: http://www.analog.com/static/imported-files/data_sheets/ADG619_620.pdf; ComponentLink3Description: Package Specification; ComponentLink3URL: http://www.analog.com/static/imported-files/packages/PKG_PDF/MSOP%28RM%29/RM_8.pdf
footprint ADI-RM-8_N (SOP, 8-Leads, Body 3x3mm, Pitch 0.65mm, IPC Medium Density)
footprint ADI-RM-8_L (SOP, 8-Leads, Body 3x3mm, Pitch 0.65mm, IPC High Density)
footprint ADI-RM-8_M (SOP, 8-Leads, Body 3x3mm, Pitch 0.65mm, IPC Low Density)
pins: 1 D "Drain Terminal. Can be an input or output.", 2 S1 "Source Terminal. Can be an input or output.", 3 GND (power) "Ground (0 V) Reference.", 4 VDD (power) "Most Positive Power Supply.", 5 NC "No Connect. Not internally connected.", 6 IN (in) "Logic Control Input.", 7 VSS (power) "Most Negative Power Supply. This pin is only used in dual-supply applications and should be tied to ground in single-supply applications.", 8 S2 "Source Terminal. Can be an input or output."

## ADG619BRMZ-REEL
designator U?
CMOS, +/-5 V / +5 V, 4 Ohm, Single SPDT Switch, -40 to 85 degC, 8-pin SOP (RM-8), Reel; Manufacturer: Analog Devices; PartNumber: ADG619BRMZ-REEL; Id, Is (ON): 10pA, 10pA; Max Pos Supply: 5.5V; Min Pos Supply: 2.7V; Power Dissipation: 10uW; Ron (ohms): 4; DatasheetVersion: Rev. C; PackageVersion: Aug-05; PackageReference: RM-8; PackageDescription: 8-Pin Mini Small Outline Package, Body 3 x 3 mm, Pitch 0.65 mm; Supplier 1: Digi-Key; Supplier Part Number 1: ADG619BRMZ-REEL-ND; Supplier 2: Newark; Supplier Part Number 2: 59K1438; Supplier 3: Mouser; Supplier Part Number 3: 584-ADG619BRMZ-R; Configuration: SPDT; Is OFF: 10pA, 10pA; Packing: Reel; Mounting Technology: Surface Mount; Code_JEDEC: MO-187-AA; ComponentLink1Description: Manufacturer URL; ComponentLink1URL: http://www.analog.com/en/index.html; ComponentLink2Description: Datasheet; ComponentLink2URL: http://www.analog.com/static/imported-files/data_sheets/ADG619_620.pdf; ComponentLink3Description: Package Specification; ComponentLink3URL: http://www.analog.com/static/imported-files/packages/PKG_PDF/MSOP%28RM%29/RM_8.pdf
footprint ADI-RM-8_N (SOP, 8-Leads, Body 3x3mm, Pitch 0.65mm, IPC Medium Density)
footprint ADI-RM-8_L (SOP, 8-Leads, Body 3x3mm, Pitch 0.65mm, IPC High Density)
footprint ADI-RM-8_M (SOP, 8-Leads, Body 3x3mm, Pitch 0.65mm, IPC Low Density)
pins: 1 D "Drain Terminal. Can be an input or output.", 2 S1 "Source Terminal. Can be an input or output.", 3 GND (power) "Ground (0 V) Reference.", 4 VDD (power) "Most Positive Power Supply.", 5 NC "No Connect. Not internally connected.", 6 IN (in) "Logic Control Input.", 7 VSS (power) "Most Negative Power Supply. This pin is only used in dual-supply applications and should be tied to ground in single-supply applications.", 8 S2 "Source Terminal. Can be an input or output."

## ADG619BRMZ-REEL7
designator U?
CMOS, +/-5 V / +5 V, 4 Ohm, Single SPDT Switch, -40 to 85 degC, 8-pin SOP (RM-8), Reel; Manufacturer: Analog Devices; PartNumber: ADG619BRMZ-REEL7; Id, Is (ON): 10pA, 10pA; Max Pos Supply: 5.5V; Min Pos Supply: 2.7V; Power Dissipation: 10uW; Ron (ohms): 4; DatasheetVersion: Rev. C; PackageVersion: Aug-05; PackageReference: RM-8; PackageDescription: 8-Pin Mini Small Outline Package, Body 3 x 3 mm, Pitch 0.65 mm; Supplier 1: Digi-Key; Supplier Part Number 1: ADG619BRMZ-REEL7-ND; Supplier 2: Newark; Supplier Part Number 2: 59K1439; Supplier 3: Mouser; Supplier Part Number 3: 584-ADG619BRMZ-R7; Configuration: SPDT; Is OFF: 10pA, 10pA; Packing: Reel; Mounting Technology: Surface Mount; Code_JEDEC: MO-187-AA; ComponentLink1Description: Manufacturer URL; ComponentLink1URL: http://www.analog.com/en/index.html; ComponentLink2Description: Datasheet; ComponentLink2URL: http://www.analog.com/static/imported-files/data_sheets/ADG619_620.pdf; ComponentLink3Description: Package Specification; ComponentLink3URL: http://www.analog.com/static/imported-files/packages/PKG_PDF/MSOP%28RM%29/RM_8.pdf
footprint ADI-RM-8_N (SOP, 8-Leads, Body 3x3mm, Pitch 0.65mm, IPC Medium Density)
footprint ADI-RM-8_L (SOP, 8-Leads, Body 3x3mm, Pitch 0.65mm, IPC High Density)
footprint ADI-RM-8_M (SOP, 8-Leads, Body 3x3mm, Pitch 0.65mm, IPC Low Density)
pins: 1 D "Drain Terminal. Can be an input or output.", 2 S1 "Source Terminal. Can be an input or output.", 3 GND (power) "Ground (0 V) Reference.", 4 VDD (power) "Most Positive Power Supply.", 5 NC "No Connect. Not internally connected.", 6 IN (in) "Logic Control Input.", 7 VSS (power) "Most Negative Power Supply. This pin is only used in dual-supply applications and should be tied to ground in single-supply applications.", 8 S2 "Source Terminal. Can be an input or output."

## ADG619BRTZ-500RL7
designator U?
CMOS, +/-5 V / +5 V, 4 Ohm, Single SPDT Switch, -40 to 85 degC, 8-pin SOP (RJ-8), Reel; Manufacturer: Analog Devices; PartNumber: ADG619BRTZ-500RL7; Id, Is (ON): 10pA, 10pA; Max Pos Supply: 5.5V; Min Pos Supply: 2.7V; Power Dissipation: 10uW; Ron (ohms): 4; DatasheetVersion: Rev. C; PackageVersion: 121608-A, 12/2008; PackageReference: RJ-8; PackageDescription: 8-Pin Small Outline Transistor Package, Body 2.9 x 1.6 mm, Pitch 0.65 mm; Supplier 1: Digi-Key; Supplier Part Number 1: ADG619BRTZ-500RL7TR-ND; Supplier 2: Digi-Key; Supplier Part Number 2: ADG619BRTZ-500RL7CT-ND; Supplier 3: Digi-Key; Supplier Part Number 3: ADG619BRTZ-500RL7DKR-ND; Supplier 4: Farnell; Supplier Part Number 4: 2376780; Supplier 5: Newark; Supplier Part Number 5: 23X5948; Supplier 6: Newark; Supplier Part Number 6: 12M7815; Supplier 7: Mouser; Supplier Part Number 7: 584-ADG619BRTZ-500R7; Configuration: SPDT; Is OFF: 10pA, 10pA; Packing: Reel; Mounting Technology: Surface Mount; Code_JEDEC: MO-178-BA; ComponentLink1Description: Manufacturer URL; ComponentLink1URL: http://www.analog.com/en/index.html; ComponentLink2Description: Datasheet; ComponentLink2URL: http://www.analog.com/static/imported-files/data_sheets/ADG619_620.pdf; ComponentLink3Description: Package Specification; ComponentLink3URL: http://www.analog.com/static/imported-files/packages/PKG_PDF/SOT-23(RJ)/RJ_8.pdf
footprint ADI-RJ-8_V (SOT23, 8-Leads, Body 2.9x1.6mm, Pitch 0.65mm)
pins: 1 D "Drain Terminal. Can be an input or output.", 2 S1 "Source Terminal. Can be an input or output.", 3 GND (power) "Ground (0 V) Reference.", 4 VDD (power) "Most Positive Power Supply.", 5 NC "No Connect. Not internally connected.", 6 IN (in) "Logic Control Input.", 7 VSS (power) "Most Negative Power Supply. This pin is only used in dual-supply applications and should be tied to ground in single-supply applications.", 8 S2 "Source Terminal. Can be an input or output."

## ADG619BRTZ-REEL
designator U?
CMOS, +/-5 V / +5 V, 4 Ohm, Single SPDT Switch, -40 to 85 degC, 8-pin SOP (RJ-8), Reel; Manufacturer: Analog Devices; PartNumber: ADG619BRTZ-REEL; Id, Is (ON): 10pA, 10pA; Max Pos Supply: 5.5V; Min Pos Supply: 2.7V; Power Dissipation: 10uW; Ron (ohms): 4; DatasheetVersion: Rev. C; PackageVersion: 121608-A, 12/2008; PackageReference: RJ-8; PackageDescription: 8-Pin Small Outline Transistor Package, Body 2.9 x 1.6 mm, Pitch 0.65 mm; Supplier 1: Digi-Key; Supplier Part Number 1: ADG619BRTZ-REEL-ND; Supplier 2: Mouser; Supplier Part Number 2: 584-ADG619BRTZ-R; Configuration: SPDT; Is OFF: 10pA, 10pA; Packing: Reel; Mounting Technology: Surface Mount; Code_JEDEC: MO-178-BA; ComponentLink1Description: Manufacturer URL; ComponentLink1URL: http://www.analog.com/en/index.html; ComponentLink2Description: Datasheet; ComponentLink2URL: http://www.analog.com/static/imported-files/data_sheets/ADG619_620.pdf; ComponentLink3Description: Package Specification; ComponentLink3URL: http://www.analog.com/static/imported-files/packages/PKG_PDF/SOT-23(RJ)/RJ_8.pdf
footprint ADI-RJ-8_V (SOT23, 8-Leads, Body 2.9x1.6mm, Pitch 0.65mm)
pins: 1 D "Drain Terminal. Can be an input or output.", 2 S1 "Source Terminal. Can be an input or output.", 3 GND (power) "Ground (0 V) Reference.", 4 VDD (power) "Most Positive Power Supply.", 5 NC "No Connect. Not internally connected.", 6 IN (in) "Logic Control Input.", 7 VSS (power) "Most Negative Power Supply. This pin is only used in dual-supply applications and should be tied to ground in single-supply applications.", 8 S2 "Source Terminal. Can be an input or output."

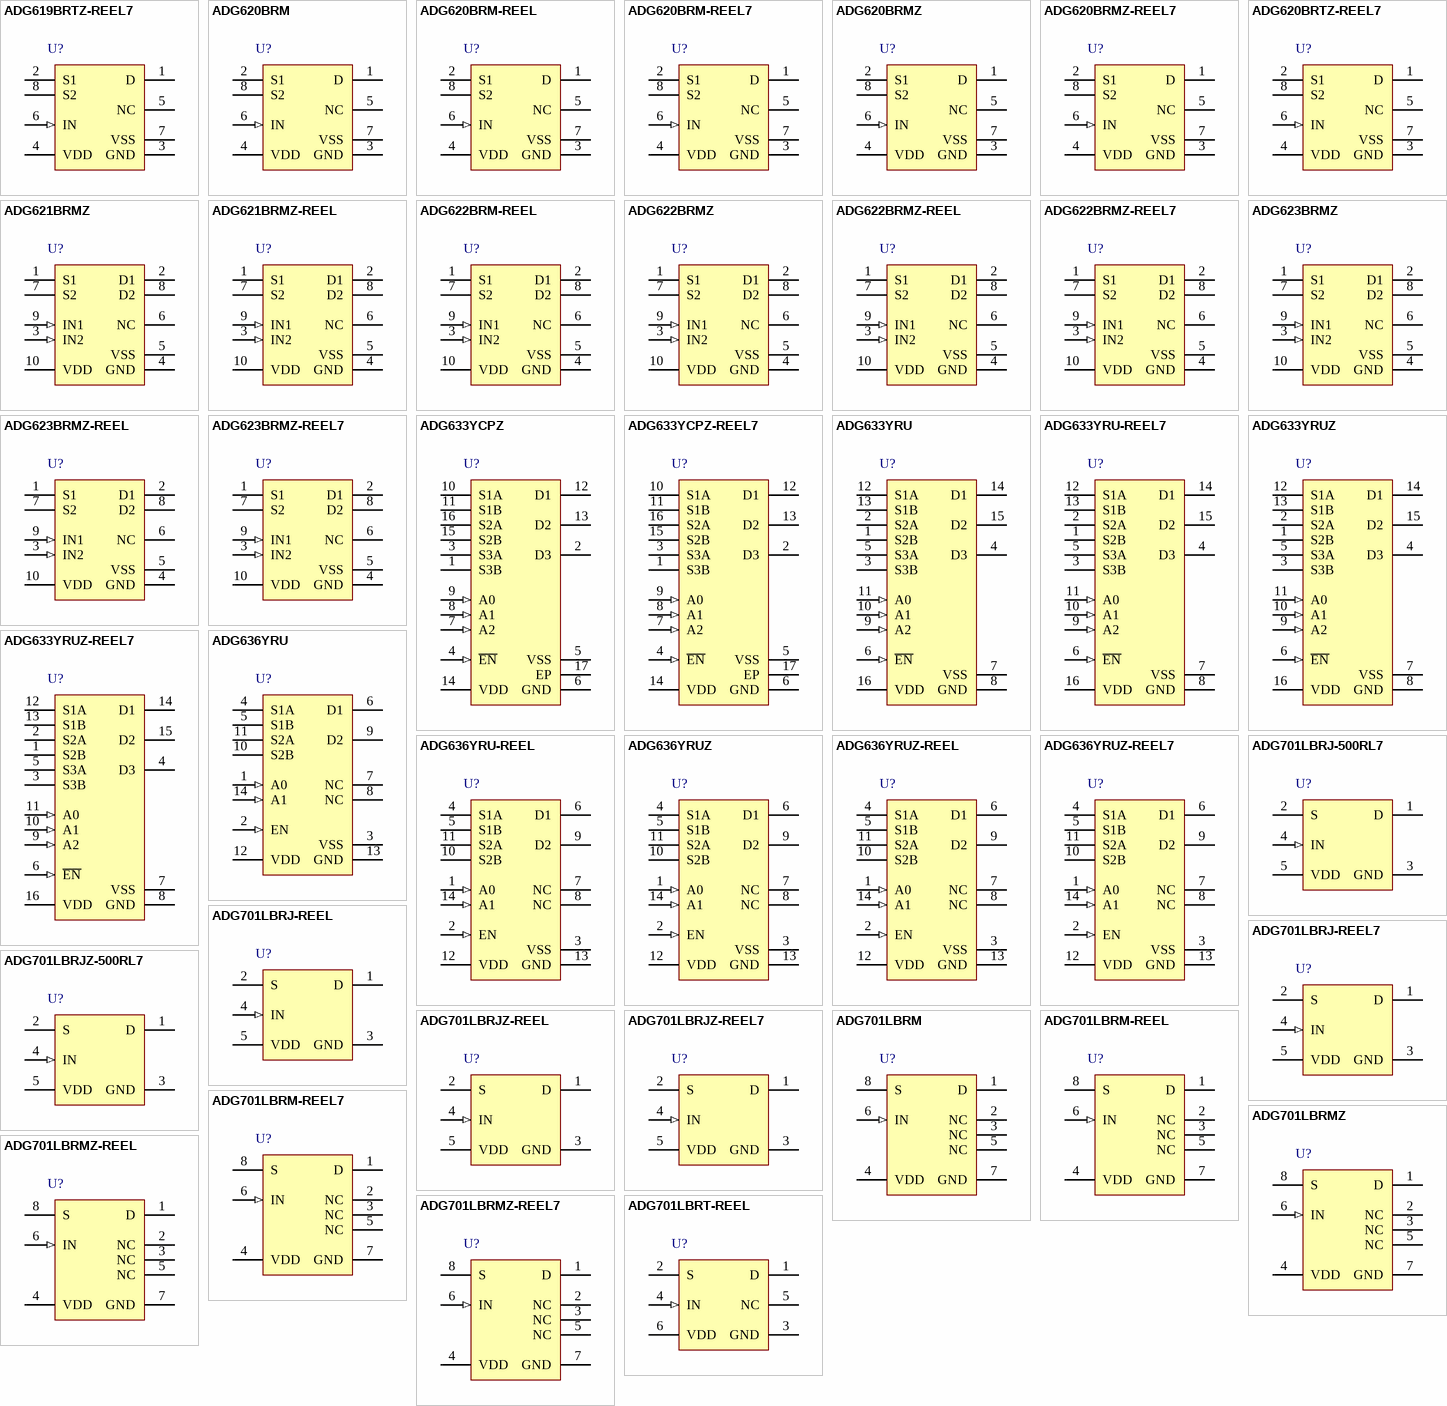
[diagram p7: symbols ADG619BRTZ-REEL7 to ADG701LBRT-REEL]

## ADG619BRTZ-REEL7
designator U?
CMOS, +/-5 V / +5 V, 4 Ohm, Single SPDT Switch, -40 to 85 degC, 8-pin SOP (RJ-8), Reel; Manufacturer: Analog Devices; PartNumber: ADG619BRTZ-REEL7; Id, Is (ON): 10pA, 10pA; Max Pos Supply: 5.5V; Min Pos Supply: 2.7V; Power Dissipation: 10uW; Ron (ohms): 4; DatasheetVersion: Rev. C; PackageVersion: 121608-A, 12/2008; PackageReference: RJ-8; PackageDescription: 8-Pin Small Outline Transistor Package, Body 2.9 x 1.6 mm, Pitch 0.65 mm; Supplier 1: Digi-Key; Supplier Part Number 1: ADG619BRTZ-REEL7TR-ND; Supplier 2: Digi-Key; Supplier Part Number 2: ADG619BRTZ-REEL7CT-ND; Supplier 3: Digi-Key; Supplier Part Number 3: ADG619BRTZ-REEL7DKR-ND; Supplier 4: Farnell; Supplier Part Number 4: 1838888; Supplier 5: Newark; Supplier Part Number 5: 59K1442; Supplier 6: Newark; Supplier Part Number 6: 28X4178; Supplier 7: Mouser; Supplier Part Number 7: 584-ADG619BRTZ-R7; Configuration: SPDT; Is OFF: 10pA, 10pA; Packing: Reel; Mounting Technology: Surface Mount; Code_JEDEC: MO-178-BA; ComponentLink1Description: Manufacturer URL; ComponentLink1URL: http://www.analog.com/en/index.html; ComponentLink2Description: Datasheet; ComponentLink2URL: http://www.analog.com/static/imported-files/data_sheets/ADG619_620.pdf; ComponentLink3Description: Package Specification; ComponentLink3URL: http://www.analog.com/static/imported-files/packages/PKG_PDF/SOT-23(RJ)/RJ_8.pdf
footprint ADI-RJ-8_V (SOT23, 8-Leads, Body 2.9x1.6mm, Pitch 0.65mm)
pins: 1 D "Drain Terminal. Can be an input or output.", 2 S1 "Source Terminal. Can be an input or output.", 3 GND (power) "Ground (0 V) Reference.", 4 VDD (power) "Most Positive Power Supply.", 5 NC "No Connect. Not internally connected.", 6 IN (in) "Logic Control Input.", 7 VSS (power) "Most Negative Power Supply. This pin is only used in dual-supply applications and should be tied to ground in single-supply applications.", 8 S2 "Source Terminal. Can be an input or output."

## ADG620BRM
designator U?
CMOS, +/-5 V / +5 V, 4 Ohm, Single SPDT Switch, -40 to 85 degC, 8-pin SOP (RM-8), Tube; Manufacturer: Analog Devices; PartNumber: ADG620BRM; Id, Is (ON): 10pA, 10pA; Max Pos Supply: 5.5V; Min Pos Supply: 2.7V; Power Dissipation: 10uW; Ron (ohms): 4; DatasheetVersion: Rev. C; PackageVersion: Aug-05; PackageReference: RM-8; PackageDescription: 8-Pin Mini Small Outline Package, Body 3 x 3 mm, Pitch 0.65 mm; Supplier 1: Digi-Key; Supplier Part Number 1: ADG620BRM-ND; Configuration: SPDT; Is OFF: 10pA, 10pA; Packing: Tube; Mounting Technology: Surface Mount; Code_JEDEC: MO-187-AA; ComponentLink1Description: Manufacturer URL; ComponentLink1URL: http://www.analog.com/en/index.html; ComponentLink2Description: Datasheet; ComponentLink2URL: http://www.analog.com/static/imported-files/data_sheets/ADG619_620.pdf; ComponentLink3Description: Package Specification; ComponentLink3URL: http://www.analog.com/static/imported-files/packages/PKG_PDF/MSOP%28RM%29/RM_8.pdf
footprint ADI-RM-8_N (SOP, 8-Leads, Body 3x3mm, Pitch 0.65mm, IPC Medium Density)
footprint ADI-RM-8_L (SOP, 8-Leads, Body 3x3mm, Pitch 0.65mm, IPC High Density)
footprint ADI-RM-8_M (SOP, 8-Leads, Body 3x3mm, Pitch 0.65mm, IPC Low Density)
pins: 1 D "Drain Terminal. Can be an input or output.", 2 S1 "Source Terminal. Can be an input or output.", 3 GND (power) "Ground (0 V) Reference.", 4 VDD (power) "Most Positive Power Supply.", 5 NC "No Connect. Not internally connected.", 6 IN (in) "Logic Control Input.", 7 VSS (power) "Most Negative Power Supply. This pin is only used in dual-supply applications and should be tied to ground in single-supply applications.", 8 S2 "Source Terminal. Can be an input or output."

## ADG620BRM-REEL
designator U?
CMOS, +/-5 V / +5 V, 4 Ohm, Single SPDT Switch, -40 to 85 degC, 8-pin SOP (RM-8), Reel; Manufacturer: Analog Devices; PartNumber: ADG620BRM-REEL; Id, Is (ON): 10pA, 10pA; Max Pos Supply: 5.5V; Min Pos Supply: 2.7V; Power Dissipation: 10uW; Ron (ohms): 4; DatasheetVersion: Rev. C; PackageVersion: Aug-05; PackageReference: RM-8; PackageDescription: 8-Pin Mini Small Outline Package, Body 3 x 3 mm, Pitch 0.65 mm; Supplier 1: Digi-Key; Supplier Part Number 1: ADG620BRM-REEL-ND; Configuration: SPDT; Is OFF: 10pA, 10pA; Packing: Reel; Mounting Technology: Surface Mount; Code_JEDEC: MO-187-AA; ComponentLink1Description: Manufacturer URL; ComponentLink1URL: http://www.analog.com/en/index.html; ComponentLink2Description: Datasheet; ComponentLink2URL: http://www.analog.com/static/imported-files/data_sheets/ADG619_620.pdf; ComponentLink3Description: Package Specification; ComponentLink3URL: http://www.analog.com/static/imported-files/packages/PKG_PDF/MSOP%28RM%29/RM_8.pdf
footprint ADI-RM-8_N (SOP, 8-Leads, Body 3x3mm, Pitch 0.65mm, IPC Medium Density)
footprint ADI-RM-8_L (SOP, 8-Leads, Body 3x3mm, Pitch 0.65mm, IPC High Density)
footprint ADI-RM-8_M (SOP, 8-Leads, Body 3x3mm, Pitch 0.65mm, IPC Low Density)
pins: 1 D "Drain Terminal. Can be an input or output.", 2 S1 "Source Terminal. Can be an input or output.", 3 GND (power) "Ground (0 V) Reference.", 4 VDD (power) "Most Positive Power Supply.", 5 NC "No Connect. Not internally connected.", 6 IN (in) "Logic Control Input.", 7 VSS (power) "Most Negative Power Supply. This pin is only used in dual-supply applications and should be tied to ground in single-supply applications.", 8 S2 "Source Terminal. Can be an input or output."